# EAGLE library part 62001011722 (library Wire_to_Board_Connectors_rev15d)
WR-WTB 2.00mm Male Horizontal Shrouded Header, 10 Pins=>Code : Con_WTB_2.00_PCB_THT_62001011722 <http://katalog.we-online.de/media/thumbs2/eican/thb_Con_WTB_2.00_PCB_THT_6200xx11722_pf2.jpg> Details see: http://katalog.we-online.de/en/em/620_0xx_117_22 Created 2014-06-05, Karrer Zheng 2014 (C) Würth Elektronik
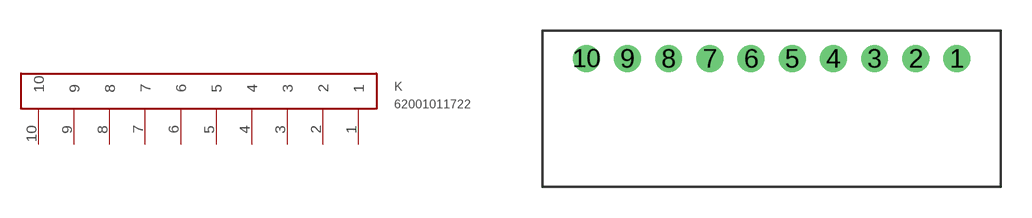
[diagram p34: symbol with the pads of 62001011722; footprint 62001011722]

Designator prefix K

## 62001011722  [62001011722]
1  1  pas
2  2  pas
3  3  pas
4  4  pas
5  5  pas
6  6  pas
7  7  pas
8  8  pas
9  9  pas
10  10  pas

## Footprint 62001011722 (pad centres in mm)
WR-WTB 2.00mm Male Horizontal Shrouded Header, 10 Pins
drill 0.8: 1 1,0; 2 -1,0; 3 -3,0; 4 -5,0; 5 -7,0; 6 -9,0; 7 -11,0; 8 -13,0; 9 -15,0; 10 -17,0